# Altium footprint library ADLibrary_Footprints.PcbLib: 42 footprints (part 1 of 3)
Each footprint in its own frame and in the unit in brackets; x right, y up, seen from the top. Pads: shape width x height; smd on the part's side, far side on the other; paste and mask are expansions set on the pad; w line width, h text height; cw(c..) or ccw(c..) is an arc to the next point about the centre after c.
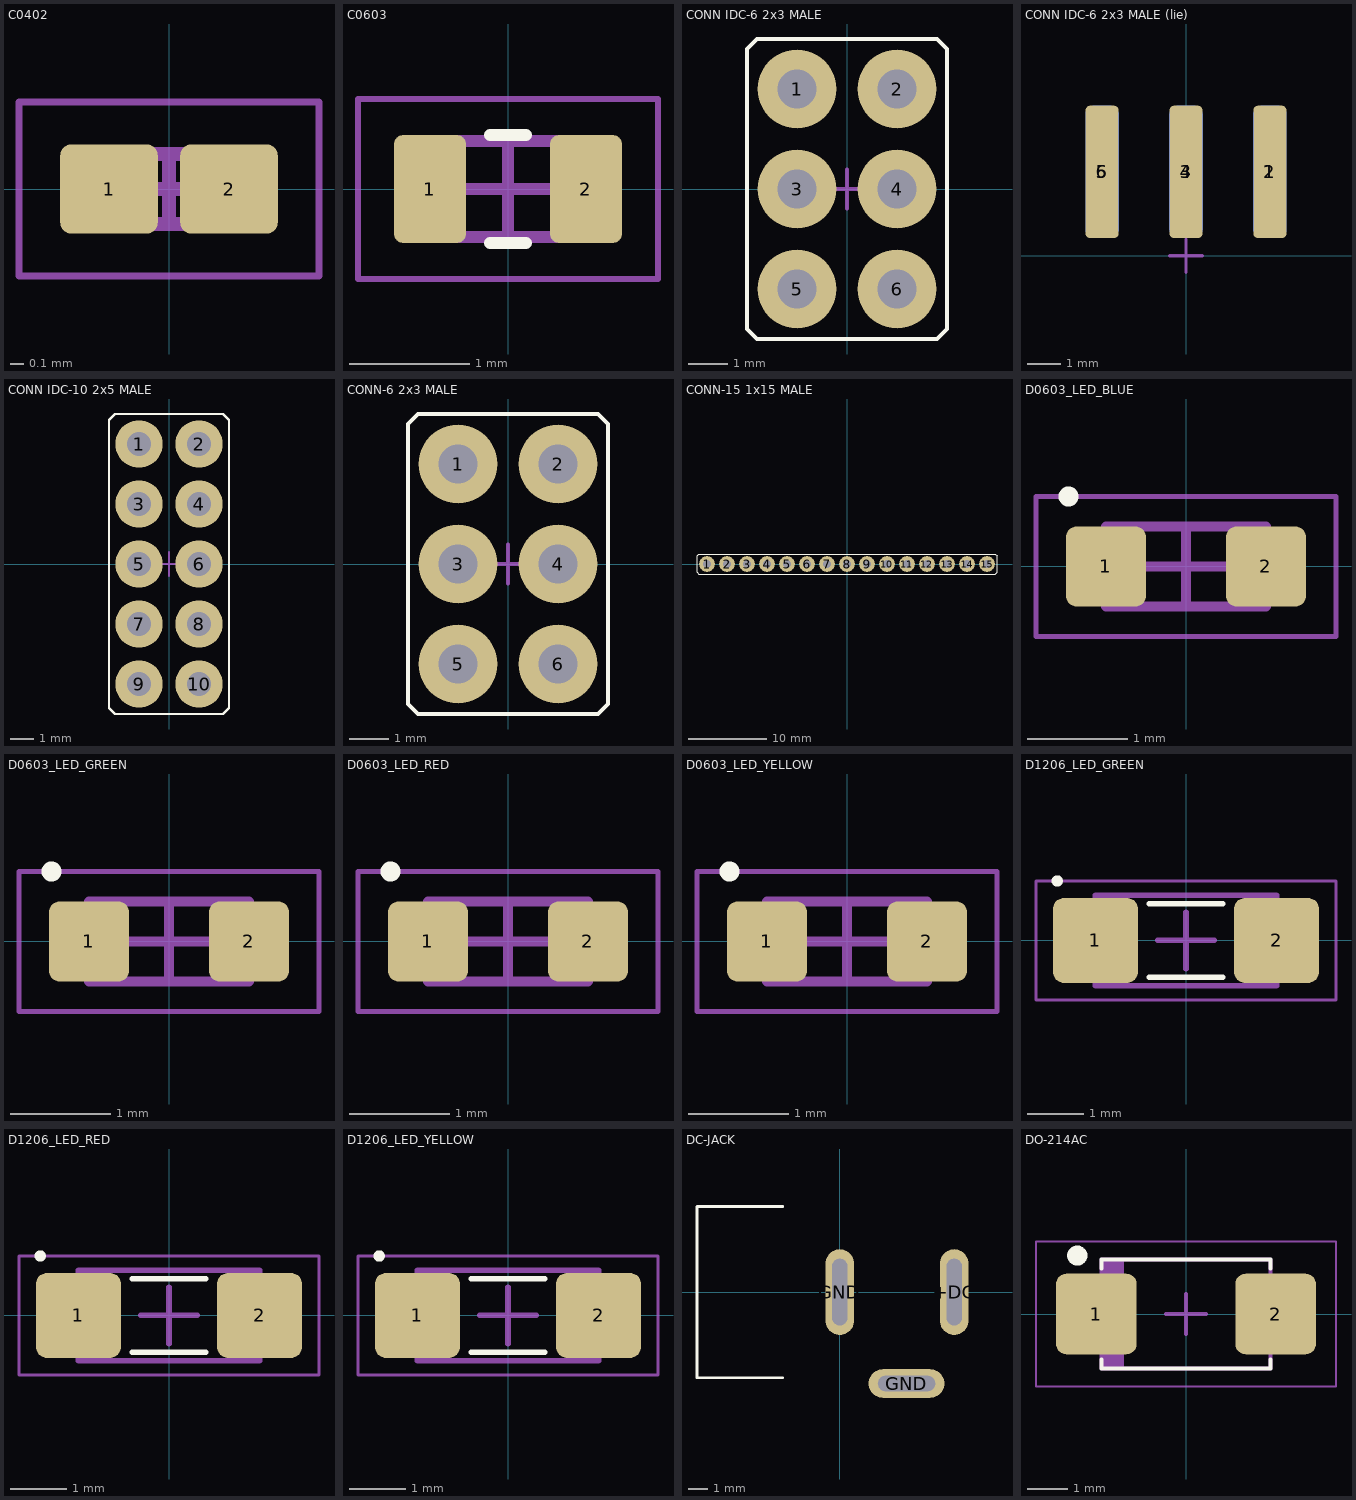
[diagram p0: the footprints below, top view; thin cyan lines are the x and y axes]

## C0402 [mm] "Chip Capacitor, 2-Leads, Body 1,00x0,50mm, IPC Medium Density"
height 0.5
pads (2):
  rrect25% 0.7x0.64 smd: 1(-0.43,0) 2(0.43,0)
Mechanical 13:
  lines w0.1: -0.5,-0.25 0.5,-0.25 0.5,0.25 -0.5,0.25 -0.5,-0.25
Mechanical 15:
  lines w0.05: -1.075,-0.625 1.075,-0.625 1.075,0.625 -1.075,0.625 -1.075,-0.625
  lines w0.1: -0.25,0 0.25,0 ; 0,-0.25 0,0.25
3D body "C0402.STEP": height 0.55, standoff 0, extent -0.5,-0.25 0.5,0.25

## C0603 [mm] "Chip Capacitor, 2-Leads, Body 1,60x0,80mm, IPC Medium Density"
height 0.9
pads (2):
  rrect25% 0.6x0.9 smd: 1(-0.65,0) 2(0.65,0)
Top Overlay:
  lines w0.1: -0.15,-0.45 0.15,-0.45 ; -0.15,0.45 0.15,0.45
Mechanical 13:
  lines w0.1: -0.8,-0.4 0.8,-0.4 0.8,0.4 -0.8,0.4 -0.8,-0.4
Mechanical 15:
  lines w0.05: -1.25,-0.75 1.25,-0.75 1.25,0.75 -1.25,0.75 -1.25,-0.75
  lines w0.1: -0.4,0 0.4,0 ; 0,-0.4 0,0.4
3D body "C0603.stp": height 0.9, standoff 0, extent -0.85,-0.45 0.85,0.45

## CONN IDC-6 2x3 MALE [mm]
pads (6):
  round 2 hole 1: 1(-1.27,2.54) 2(1.27,2.54) 3(-1.27,0) 4(1.27,0) 5(-1.27,-2.54) 6(1.27,-2.54)
Top Overlay:
  lines w0.1: -2.54,-3.556 -2.286,-3.81 2.286,-3.81 2.54,-3.556 2.54,3.556 2.286,3.81 -2.286,3.81 -2.54,3.556 -2.54,-3.556
Mechanical 15:
  lines w0.1: -0.5,0 0.5,0 ; 0,-0.5 0,0.5
3D body "6-Pin Shrouded Header (IDC) Straight.stp": height 9.27, standoff -3.9, extent -4.445,-5.715 4.826,5.715

## CONN IDC-6 2x3 MALE (lie) [mm]
pads (6):
  rrect25% 1x4 smd: 1(2.54,2.54) 3(0,2.54) 5(-2.54,2.54)
  rrect50% 1x4 smd far side: 2(2.54,2.54) 4(0,2.54) 6(-2.54,2.54)
Mechanical 15:
  lines w0.1: -0.5,0 0.5,0 ; 0,-0.5 0,0.5
3D body "6-Pin Shrouded Header (IDC) Straight.stp": height 3.47, standoff -5.8, extent -5.715,-9.271 5.715,3.895

## CONN IDC-10 2x5 MALE [mm]
pads (10):
  round 2 hole 1: 1(-1.27,5.08) 2(1.27,5.08) 3(-1.27,2.54) 4(1.27,2.54) 5(-1.27,0) 6(1.27,0) 7(-1.27,-2.54) 8(1.27,-2.54) 9(-1.27,-5.08) 10(1.27,-5.08)
Top Overlay:
  lines w0.1: -2.54,-6.096 -2.54,6.096 -2.286,6.35 2.286,6.35 2.54,6.096 2.54,-6.096 2.286,-6.35 -2.286,-6.35 -2.54,-6.096
Mechanical 15:
  lines w0.1: -0.5,0 0.5,0 ; 0,-0.5 0,0.5
3D body "IDC-10.STEP": height 3.5, standoff -8.9, extent -4.301,-10.15 4.699,10.15

## CONN-6 2x3 MALE [mm]
pads (6):
  round 2 hole 1: 1(-1.27,2.54) 2(1.27,2.54) 3(-1.27,0) 4(1.27,0) 5(-1.27,-2.54) 6(1.27,-2.54)
Top Overlay:
  lines w0.1: -2.54,-3.556 -2.54,3.556 -2.286,3.81 2.286,3.81 2.54,3.556 2.54,-3.556 2.286,-3.81 -2.286,-3.81 -2.54,-3.556
Mechanical 15:
  lines w0.1: -0.5,0 0.5,0 ; 0,-0.5 0,0.5
3D body "Header 2x3 TH Pitch 2_54mm.STEP": height 9.2, standoff -3.5, extent -2.53,-3.81 2.55,3.81

## CONN-15 1x15 MALE [mm]
pads (15):
  round 2 hole 1: 1(-17.78,0) 2(-15.24,0) 3(-12.7,0) 4(-10.16,0) 5(-7.62,0) 6(-5.08,0) 7(-2.54,0) 8(0,0) 9(2.54,0) 10(5.08,0) 11(7.62,0) 12(10.16,0) 13(12.7,0) 14(15.24,0) 15(17.78,0)
Top Overlay:
  lines w0.1: -19.05,-1.05 -19.05,1.05 -18.83,1.27 18.83,1.27 19.05,1.05 19.05,-1.05 18.83,-1.27 -18.83,-1.27 -19.05,-1.05
Mechanical 15:
  lines w0.1: -0.5,0 0.5,0 ; 0,-0.5 0,0.5
3D body "Header 1x15 TH Pitch 2_54mm.STEP": height 8.89, standoff -3.05, extent -19.05,-1.27 19.05,1.27

## D0603_LED_BLUE [mm] "Molded Diode, 2-Leads, Body 1,60x0,80mm, IPC Medium Density"
height 0.6
pads (2):
  rrect25% 0.8x0.8 smd: 1(-0.8,0) 2(0.8,0)
Top Overlay:
  circle w0.1: c-1.175,0.7 r0.05
Mechanical 13:
  rectangle: -0.8,-0.4 -0.585,0.4
  lines w0.1: -0.8,-0.4 -0.8,0.4 0.8,0.4 0.8,-0.4 -0.8,-0.4
Mechanical 15:
  lines w0.05: -1.5,-0.7 1.5,-0.7 1.5,0.7 -1.5,0.7 -1.5,-0.7
  lines w0.1: -0.4,0 0.4,0 ; 0,-0.4 0,0.4
3D body "D0603_LED_Blue.stp": height 0.4, standoff 0, extent -0.8,-0.4 0.8,0.4

## D0603_LED_GREEN [mm] "Molded Diode, 2-Leads, Body 1,60x0,80mm, IPC Medium Density"
height 0.6
pads (2):
  rrect25% 0.8x0.8 smd: 1(-0.8,0) 2(0.8,0)
Top Overlay:
  circle w0.1: c-1.175,0.7 r0.05
Mechanical 13:
  rectangle: -0.8,-0.4 -0.585,0.4
  lines w0.1: -0.8,-0.4 -0.8,0.4 0.8,0.4 0.8,-0.4 -0.8,-0.4
Mechanical 15:
  lines w0.05: -1.5,-0.7 -1.5,0.7 1.5,0.7 1.5,-0.7 -1.5,-0.7
  lines w0.1: -0.4,0 0.4,0 ; 0,-0.4 0,0.4
3D body "D0603_LED_Green.stp": height 0.4, standoff 0, extent -0.8,-0.4 0.8,0.4

## D0603_LED_RED [mm] "Molded Diode, 2-Leads, Body 1,60x0,80mm, IPC Medium Density"
height 0.6
pads (2):
  rrect25% 0.8x0.8 smd: 1(-0.8,0) 2(0.8,0)
Top Overlay:
  circle w0.1: c-1.175,0.7 r0.05
Mechanical 13:
  rectangle: -0.8,-0.4 -0.585,0.4
  lines w0.1: -0.8,-0.4 0.8,-0.4 0.8,0.4 -0.8,0.4 -0.8,-0.4
Mechanical 15:
  lines w0.05: -1.5,-0.7 1.5,-0.7 1.5,0.7 -1.5,0.7 -1.5,-0.7
  lines w0.1: -0.4,0 0.4,0 ; 0,-0.4 0,0.4
3D body "D0603_LED_Red.stp": height 0.4, standoff 0, extent -0.8,-0.4 0.8,0.4

## D0603_LED_YELLOW [mm] "Molded Diode, 2-Leads, Body 1,60x0,80mm, IPC Medium Density"
height 0.6
pads (2):
  rrect25% 0.8x0.8 smd: 1(-0.8,0) 2(0.8,0)
Top Overlay:
  circle w0.1: c-1.175,0.7 r0.05
Mechanical 13:
  rectangle: -0.8,-0.4 -0.585,0.4
  lines w0.1: -0.8,-0.4 -0.8,0.4 0.8,0.4 0.8,-0.4 -0.8,-0.4
Mechanical 15:
  lines w0.05: -1.5,-0.7 -1.5,0.7 1.5,0.7 1.5,-0.7 -1.5,-0.7
  lines w0.1: -0.4,0 0.4,0 ; 0,-0.4 0,0.4
3D body "D0603_LED_Yellow.stp": height 0.4, standoff 0, extent -0.8,-0.4 0.8,0.4

## D1206_LED_GREEN [mm] "3.2x1.6mm SMD CHIP LED LAMP"
height 1.1
pads (2):
  rrect25% 1.5x1.5 smd: 1(-1.6,0) 2(1.6,0)
Top Overlay:
  circle w0.1: c-2.275,1.05 r0.05
  lines w0.1: -0.65,-0.65 0.65,-0.65 ; -0.65,0.65 0.65,0.65
Mechanical 13:
  lines w0.1: -1.6,-0.8 -1.6,0.8 1.6,0.8 1.6,-0.8 -1.6,-0.8
Mechanical 15:
  lines w0.05: -2.65,-1.05 -2.65,1.05 2.65,1.05 2.65,-1.05 -2.65,-1.05
  lines w0.1: -0.5,0 0.5,0 ; 0,-0.5 0,0.5
3D body "D1206_LED_GREEN.STEP": height 1.1, standoff 0, extent -1.6,-0.8 1.6,0.8

## D1206_LED_RED [mm] "3.2x1.6mm SMD CHIP LED LAMP"
height 1.1
pads (2):
  rrect25% 1.5x1.5 smd: 1(-1.6,0) 2(1.6,0)
Top Overlay:
  circle w0.1: c-2.275,1.05 r0.05
  lines w0.1: -0.65,-0.65 0.65,-0.65 ; -0.65,0.65 0.65,0.65
Mechanical 13:
  lines w0.1: -1.6,-0.8 -1.6,0.8 1.6,0.8 1.6,-0.8 -1.6,-0.8
Mechanical 15:
  lines w0.05: -2.65,-1.05 -2.65,1.05 2.65,1.05 2.65,-1.05 -2.65,-1.05
  lines w0.1: -0.5,0 0.5,0 ; 0,-0.5 0,0.5
3D body "D1206_LED_RED.STEP": height 1.1, standoff 0, extent -1.6,-0.8 1.6,0.8

## D1206_LED_YELLOW [mm] "3.2x1.6mm SMD CHIP LED LAMP"
height 1.1
pads (2):
  rrect25% 1.5x1.5 smd: 1(-1.6,0) 2(1.6,0)
Top Overlay:
  lines w0.1: -0.65,-0.65 0.65,-0.65 ; -0.65,0.65 0.65,0.65 ; -2.225,1.051 ccw(c-2.275,1.05) -2.225,1.05
Mechanical 13:
  lines w0.1: -1.6,-0.8 -1.6,0.8 1.6,0.8 1.6,-0.8 -1.6,-0.8
Mechanical 15:
  lines w0.05: -2.65,-1.05 -2.65,1.05 2.65,1.05 2.65,-1.05 -2.65,-1.05
  lines w0.1: -0.5,0 0.5,0 ; 0,-0.5 0,0.5
3D body "D1206_LED_YELLOW.STEP": height 1.11, standoff -0.4, extent -1.6,-0.8 1.6,0.8

## DC-JACK [mm]
pads (3):
  oval 1.5x4.5 hole 0.8 slot 3.5 at 90 deg: +DC(6,0) GND(0,0)
  oval 4x1.5 hole 0.8 slot 3 at 0 deg: GND(3.5,-4.8)
Top Overlay:
  lines w0.15: -3,-4.5 -7.5,-4.5 -7.5,4.5 -3,4.5
3D body "CON_DC_JACK.STEP": height 3.9, standoff -11, extent -7,-4.9 7.8,4.8

## DO-214AC [mm] "Molded Diode, 2-Leads, Body 4,20x2,70mm, IPC Medium Density"
height 2.2
pads (2):
  rrect25% 2x2 smd: 1(-2.225,0) 2(2.225,0)
Top Overlay:
  circle w0.25: c-2.7,1.45 r0.125
  lines w0.1: -2.1,-1.125 -2.1,-1.35 2.1,-1.35 2.1,-1.125 ; -2.1,1.125 -2.1,1.35 2.1,1.35 2.1,1.125
Mechanical 13:
  rectangle: -2.1,-1.35 -1.535,1.35
  lines w0.1: -2.1,-1.35 2.1,-1.35 2.1,1.35 -2.1,1.35 -2.1,-1.35
Mechanical 15:
  lines w0.05: -3.725,-1.8 3.725,-1.8 3.725,1.8 -3.725,1.8 -3.725,-1.8
  lines w0.1: -0.5,0 0.5,0 ; 0,-0.5 0,0.5
3D body "SMA.step": height 2.2, standoff 0, extent -2.597,-1.302 2.598,1.303